# Altium footprint library 专用A.PcbLib: 94 footprints (part 4 of 6)
Each footprint in its own frame and in the unit in brackets; x right, y up, seen from the top. Pads: shape width x height; smd on the part's side, far side on the other; paste and mask are expansions set on the pad; w line width, h text height; cw(c..) or ccw(c..) is an arc to the next point about the centre after c.
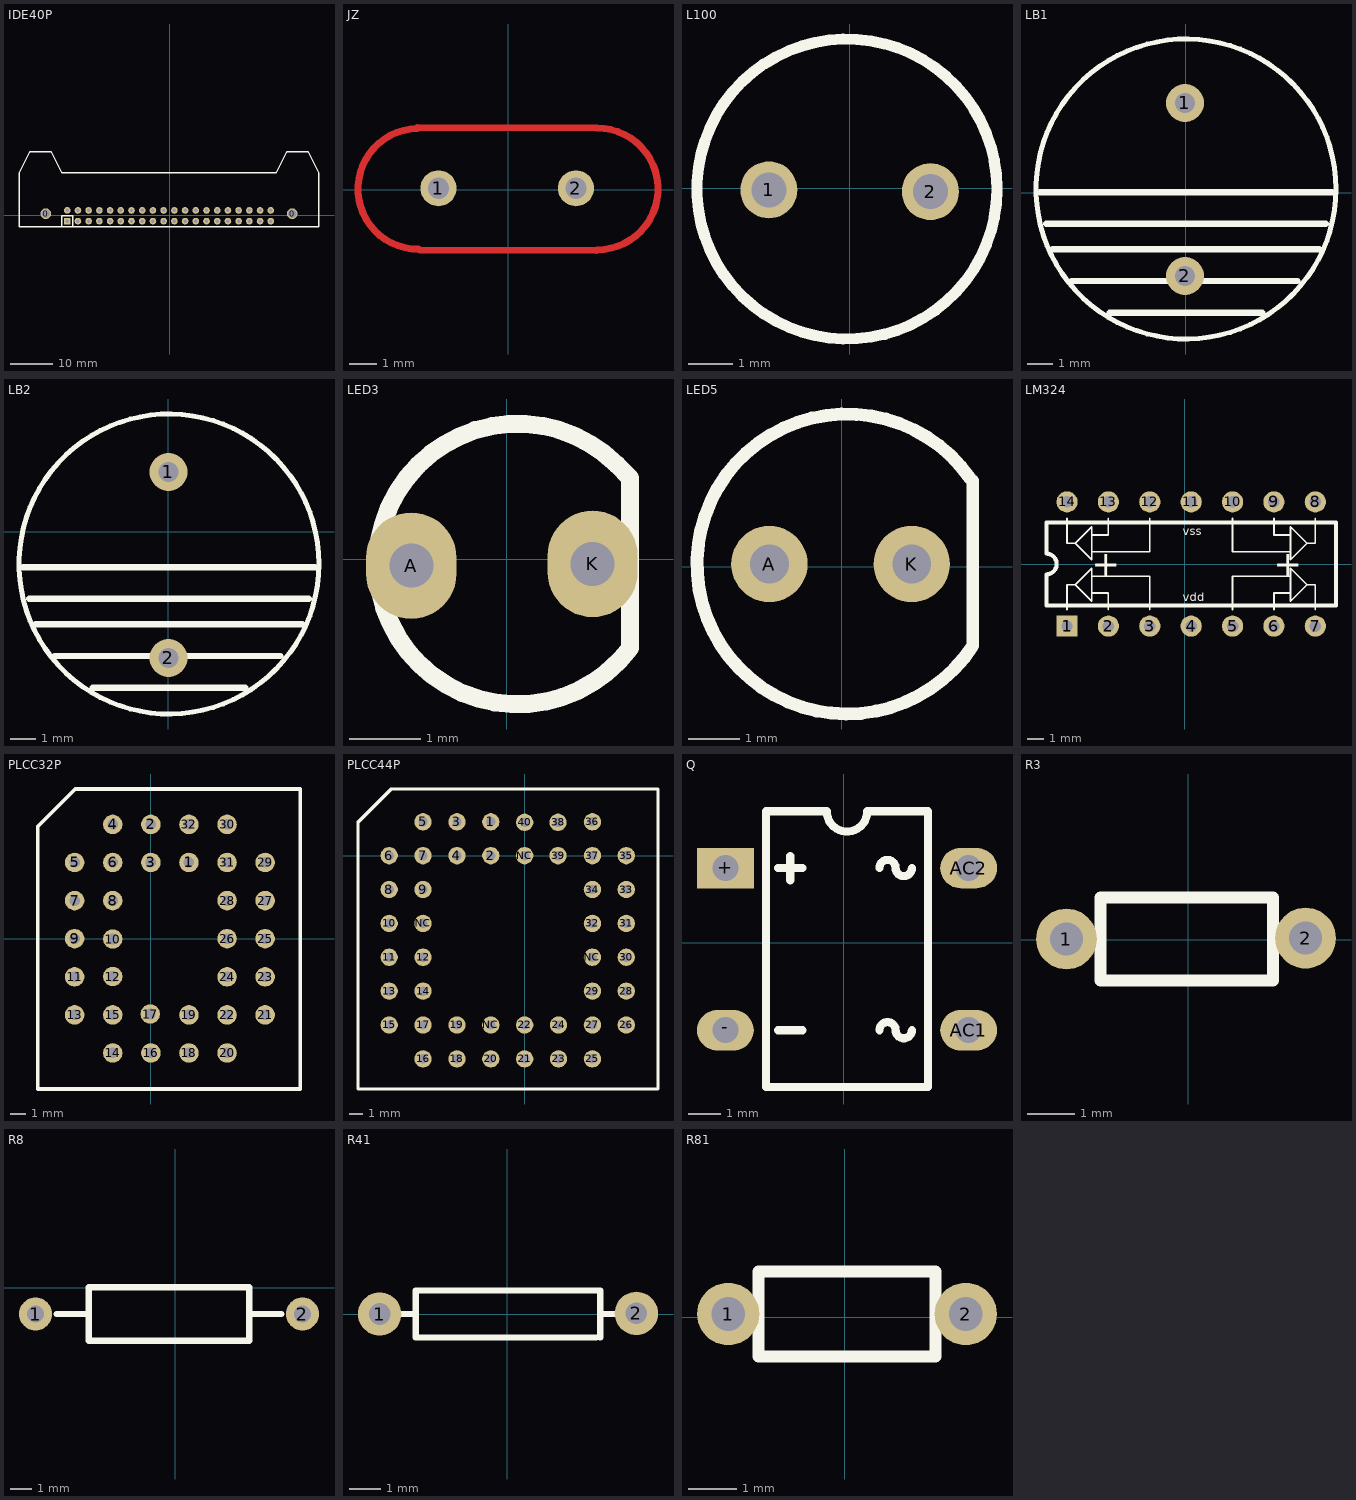
[diagram p3: the footprints below, top view; thin cyan lines are the x and y axes]

## IDE40P [mil]
pads (42):
  round 100 hole 78.74: 0(-1154.84,16.42) 0(1145.16,16.42)
  rect 62x62 hole 31.94: 1(-954.84,-53.58)
  round 62 hole 31.94: 2(-854.84,-53.58) 3(-754.84,-53.58) 4(-654.84,-53.58) 5(-554.84,-53.58) 6(-454.84,-53.58) 7(-354.84,-53.58) 8(-254.84,-53.58) 9(-154.84,-53.58) 10(-54.84,-53.58) 11(45.16,-53.58) 12(145.16,-53.58) 13(245.16,-53.58) 14(345.16,-53.58) 15(445.16,-53.58) 16(545.16,-53.58) 17(645.16,-53.58) 18(745.16,-53.58) 19(845.16,-53.58) 20(945.16,-53.58) 21(945.16,46.42) 22(845.16,46.42) 23(745.16,46.42) 24(645.16,46.42) 25(545.16,46.42) 26(445.16,46.42) 27(345.16,46.42) 28(245.16,46.42) 29(145.16,46.42) 30(45.16,46.42) 31(-54.84,46.42) 32(-154.84,46.42) 33(-254.84,46.42) 34(-354.84,46.42) 35(-454.84,46.42) 36(-554.84,46.42) 37(-654.84,46.42) 38(-754.84,46.42) 39(-854.84,46.42)
  round 61.81 hole 31.93: 40(-954.84,46.42)
TopOverlay:
  lines w12: -1004.84,-103.58 -1004.84,-3.58 -904.84,-3.58 -904.84,-103.58 ; -1404.84,-103.58 1395.16,-103.58 1395.16,396.42 1295.16,596.42 1095.16,596.42 995.16,396.42 -1004.84,396.42 -1104.84,596.42 -1304.84,596.42 -1404.84,396.42 -1404.84,-103.58

## JZ [mm]
pads (2):
  round 1.3 hole 0.762: 1(-2.517,0.055) 2(2.436,0.055)
TopLayer:
  lines w0.254: -3.274,2.24 3.16,2.22 ; -3.272,2.208 ccw(c-3.24,0.034) -3.24,-2.14 ; -3.2,-2.16 3.18,-2.18 ; 3.2,-2.16 ccw(c3.2,0.032) 3.2,2.225

## L100 [mm]
pads (2):
  round 1.3 hole 0.8: 1(-1.84,-0.04) 2(1.84,-0.08)
TopOverlay:
  lines w0.254: 3.357,-0.041 cw(c-0.06,-0.02) 3.357,0

## LB1 [mm]
pads (2):
  round 1.524 hole 0.8: 1(-0.04,3.6) 2(-0.04,-3.32)
TopOverlay:
  circle w0.2: c0.001,0.159 r6
  lines w0.254: -5.841,0.032 5.843,0.032 ; -5.587,-1.238 5.589,-1.238 ; -5.333,-2.254 5.335,-2.254 ; -4.571,-3.524 4.446,-3.524 ; -3.047,-4.794 3.049,-4.794

## LB2 [mil]
pads (2):
  round 60 hole 31.5: 1(0,94.49) 2(0,-198.43)
TopOverlay:
  circle w7.87: c0.84,-50.43 r236.22
  lines w10: -229.16,-55.43 230.84,-55.43 ; -219.16,-105.43 220.84,-105.43 ; -209.16,-145.43 210.84,-145.43 ; -179.16,-195.43 175.84,-195.43 ; -119.16,-245.43 120.84,-245.43

## LED3 [mil]
pads (2):
  oval 50x59.06 hole 24.41: A(-53,-3.5) K(47.5,-2.5)
TopOverlay:
  lines w10: 60.96,52.46 ccw(c5.96,-2.54) 68.18,-49.21 68.18,45.23 60.96,52.46

## LED5 [mm]
pads (2):
  round 1.5 hole 0.762: A(-1.416,0.054) K(1.378,0.054)
TopOverlay:
  lines w0.254: 2.525,1.738 ccw(c0.108,0.054) 2.578,-1.551 2.578,1.685

## LM324 [mm]
pads (14):
  rect 1.3x1.3 hole 0.7: 1(-7.239,-3.81)
  round 1.3 hole 0.7: 2(-4.699,-3.81) 3(-2.159,-3.81) 4(0.381,-3.81) 5(2.921,-3.81) 6(5.461,-3.81) 7(8.001,-3.81) 8(8.001,3.81) 9(5.461,3.81) 10(2.921,3.81) 11(0.381,3.81) 12(-2.159,3.81) 13(-4.699,3.81) 14(-7.239,3.81)
TopOverlay:
  lines w0.102: -7.239,-2.794 -7.239,-1.27 -6.731,-1.27 ; -7.239,2.794 -7.239,1.27 -6.731,1.27 ; -5.715,-1.778 -4.699,-1.778 -4.699,-2.794 ; -5.715,-0.762 -2.159,-0.762 -2.159,-2.794 ; -5.715,0.762 -2.159,0.762 -2.159,2.794 ; -5.715,1.778 -4.699,1.778 -4.699,2.794 ; 2.921,-2.794 2.921,-0.762 6.477,-0.762 ; 2.921,2.794 2.921,0.762 6.477,0.762 ; 5.461,-2.794 5.461,-1.778 6.477,-1.778 ; 5.461,2.794 5.461,1.778 6.477,1.778 ; 8.001,-2.794 8.001,-1.27 7.493,-1.27 ; 8.001,2.794 8.001,1.27 7.493,1.27 ; -6.731,-1.27 -5.715,-0.254 -5.715,-2.286 -6.731,-1.27 ; -6.731,1.27 -5.715,0.254 -5.715,2.286 -6.731,1.27 ; 7.493,-1.27 6.477,-0.254 6.477,-2.286 7.493,-1.27 ; 7.493,1.27 6.477,2.286 6.477,0.254 7.493,1.27
  lines w0.254: -8.509,-2.54 -8.509,-0.635 ccw(c-8.509,0) -8.509,0.635 -8.509,2.54 9.271,2.54 9.271,-2.54 -8.509,-2.54
  text "vdd" at -0.127,-2.286 h0.51
  text "vss" at -0.127,1.778 h0.51
  text "+" at -5.715,-0.762 h1.52
  text "+" at 5.461,-0.762 h1.52

## PCBComponent_1 - duplicate [mil]

## PLCC32P [mm]
pads (32):
  round 1.3 hole 0.7: 1(2.54,5.08) 2(0,7.62) 3(0,5.08) 4(-2.54,7.62) 5(-5.08,5.08) 6(-2.54,5.08) 7(-5.08,2.54) 8(-2.54,2.54) 9(-5.08,0) 10(-2.54,-0.02) 11(-5.08,-2.54) 12(-2.54,-2.52) 13(-5.08,-5.08) 14(-2.54,-7.62) 15(-2.54,-5.08) 16(0,-7.62) 17(-0.04,-5.02) 18(2.54,-7.62) 19(2.54,-5.08) 20(5.08,-7.62) 21(7.62,-5.08) 22(5.08,-5.08) 23(7.62,-2.54) 24(5.08,-2.54) 25(7.62,0) 26(5.08,0) 27(7.62,2.54) 28(5.08,2.54) 29(7.62,5.08) 30(5.08,7.62) 31(5.08,5.08) 32(2.54,7.62)
TopOverlay:
  lines w0.254: -7.54,-10.02 9.96,-10.02 9.96,9.98 -2.54,9.98 -5.04,9.98 -7.54,7.48 -7.54,4.98 -7.54,-10.02

## PLCC44P [mm]
pads (44):
  round 1.3 hole 0.7: 1(-2.54,2.54) 2(-2.54,0) 3(-5.08,2.54) 4(-5.08,0) 5(-7.62,2.54) 6(-10.16,0) 7(-7.62,0) 8(-10.16,-2.54) 9(-7.62,-2.54) 10(-10.16,-5.08) 11(-10.16,-7.62) 12(-7.62,-7.62) 13(-10.16,-10.16) 14(-7.62,-10.16) 15(-10.16,-12.7) 16(-7.62,-15.24) 17(-7.62,-12.7) 18(-5.08,-15.24) 19(-5.08,-12.7) 20(-2.54,-15.24) 21(0,-15.24) 22(0,-12.7) 23(2.54,-15.24) 24(2.54,-12.7) 25(5.08,-15.24) 26(7.62,-12.7) 27(5.08,-12.7) 28(7.62,-10.16) 29(5.08,-10.16) 30(7.62,-7.62) 31(7.62,-5.08) 32(5.08,-5.08) 33(7.62,-2.54) 34(5.08,-2.54) 35(7.62,0) 36(5.08,2.54) 37(5.08,0) 38(2.5,2.5) 39(2.5,0) 40(0,2.5) NC(-7.62,-5.08) NC(-2.54,-12.7) NC(0,0) NC(5.08,-7.62)
TopOverlay:
  lines w0.254: -12.5,-17.5 10,-17.5 10,5 -7.5,5 -10,5 -12.5,2.5 -12.5,0 -12.5,-17.5

## Q [mil]
pads (4):
  rect 70x50 hole 32: +(-145.75,91.89)
  oval 70x50 hole 32: -(-145.75,-108.11) AC1(154.25,-108.11) AC2(154.25,91.89)
TopOverlay:
  lines w10: -80.75,-108.11 -50.75,-108.11 ; -80.75,91.89 -50.75,91.89 ; -65.75,76.89 -65.75,106.89 ; 44.25,-108.11 cw(c54.25,-108.11) 64.25,-108.11 ccw(c74.25,-108.11) 84.25,-108.11 ; 44.25,91.89 cw(c54.25,91.89) 64.25,91.89 ccw(c74.25,91.89) 84.25,91.89 ; -95.75,-178.11 -95.75,161.89 -20.75,161.89 ccw(c4.25,161.89) 29.25,161.89 104.25,161.89 104.25,-178.11 -95.75,-178.11

## R3 [mm]
pads (2):
  round 1.3 hole 0.7: 1(-2.6,0.02) 2(2.5,0.04)
TopOverlay:
  lines w0.254: -1.878,-0.869 -1.878,0.909 1.805,0.909 1.805,-0.869 -1.878,-0.869

## R8 [mil]
pads (2):
  round 62 hole 32: 1(-261.57,-49.29) 2(238.43,-49.29)
TopOverlay:
  lines w12: -221.57,-49.29 -161.57,-49.29 ; 138.43,-49.29 198.43,-49.29 ; -161.57,-99.29 -161.57,0.71 138.43,0.71 138.43,-99.29 -161.57,-99.29

## R41 [mm]
pads (2):
  round 1.4 hole 0.7: 1(-4.12,0) 2(4.18,0.02)
TopOverlay:
  lines w0.203: -3.462,0 -2.954,0 ; 2.888,-0.762 -2.954,-0.762 -2.954,0.762 3.015,0.762 3.015,-0.762 ; 3.015,0 3.523,0

## R81 [mm]
pads (2):
  round 1.3 hole 0.7: 1(-2.432,0.072) 2(2.521,0.072)
TopOverlay:
  lines w0.254: -1.797,-0.817 -1.797,0.961 1.886,0.961 1.886,-0.817 -1.797,-0.817